# Altium schematic symbol library AP1117.SchLib: 1 symbol
Pins are listed as number, name and electrical type; pins without a type are passive.

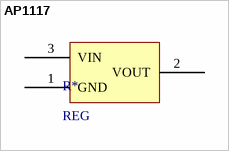
[diagram p0: symbol AP1117]

## AP1117
designator R*, comment REG
1A LOW DROPOUT POSITIVE ADJUSTABLE OR FIXED-MODE REGULATOR; ComponentLink1URL: http://www.diodes.com/datasheets/AP1117.pdf; ComponentLink1Description: Datasheet
footprint SOT230P700-4M (SOT223, 4-Leads, Body 6.5x3.5mm, Pitch 2.3mm, Lead Span 7mm, IPC Low Density)
pins: 1 GND (power), 2 VOUT (power), 3 VIN (power)